# EAGLE library part ESP32-S3-DEVKITC-1 (library ESP32-S3-DevKitC-1)
Espressif ESP32-S3-DevKitC-1 Development Board 44-Pin DIP Layout (Dual Row 22x2, 2.54mm pitch, 1.0 inch row width)
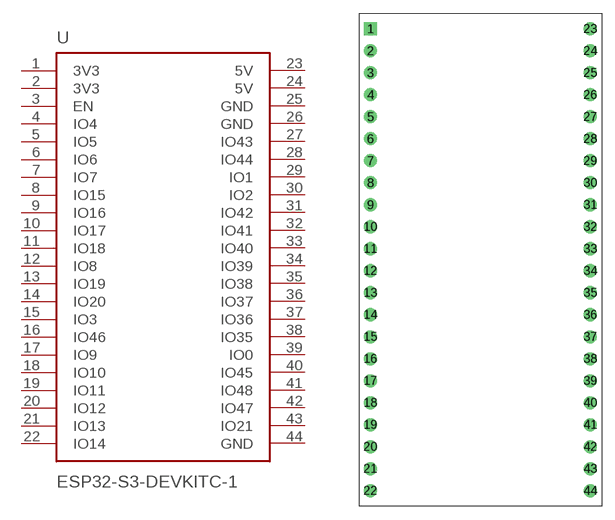
[diagram p0: symbol with the pads of ESP32-S3-DEVKITC-1; footprint ESP32-S3-DEVKITC-1]

Designator prefix U

## ESP32-S3-DEVKITC-1  [ESP32-S3-DEVKITC-1]
1  3V3  pwr
2  3V3  pwr
3  EN
4  IO4
5  IO5
6  IO6
7  IO7
8  IO15
9  IO16
10  IO17
11  IO18
12  IO8
13  IO19
14  IO20
15  IO3
16  IO46
17  IO9
18  IO10
19  IO11
20  IO12
21  IO13
22  IO14
23  5V  pwr
24  5V  pwr
25  GND  pwr
26  GND  pwr
27  IO43
28  IO44
29  IO1
30  IO2
31  IO42
32  IO41
33  IO40
34  IO39
35  IO38
36  IO37
37  IO36
38  IO35
39  IO0
40  IO45
41  IO48
42  IO47
43  IO21
44  GND  pwr

## Footprint ESP32-S3-DEVKITC-1 (pad centres in mm)
ESP32-S3-DevKitC-1 Module (44-Pin DIP) Dimensions: 28.0mm x 57.0mm, Row spacing: 25.4mm (1.0 in)
drill 1 square: 1 -12.7,26.67
drill 1: 2 -12.7,24.13; 3 -12.7,21.59; 4 -12.7,19.05; 5 -12.7,16.51; 6 -12.7,13.97; 7 -12.7,11.43; 8 -12.7,8.89; 9 -12.7,6.35; 10 -12.7,3.81; 11 -12.7,1.27; 12 -12.7,-1.27; 13 -12.7,-3.81; 14 -12.7,-6.35; 15 -12.7,-8.89; 16 -12.7,-11.43; 17 -12.7,-13.97; 18 -12.7,-16.51; 19 -12.7,-19.05; 20 -12.7,-21.59; 21 -12.7,-24.13; 22 -12.7,-26.67; 23 12.7,26.67; 24 12.7,24.13; 25 12.7,21.59; 26 12.7,19.05; 27 12.7,16.51; 28 12.7,13.97; 29 12.7,11.43; 30 12.7,8.89; 31 12.7,6.35; 32 12.7,3.81; 33 12.7,1.27; 34 12.7,-1.27; 35 12.7,-3.81; 36 12.7,-6.35; 37 12.7,-8.89; 38 12.7,-11.43; 39 12.7,-13.97; 40 12.7,-16.51; 41 12.7,-19.05; 42 12.7,-21.59; 43 12.7,-24.13; 44 12.7,-26.67